# EAGLE library part 3X3BGA (library Chips)
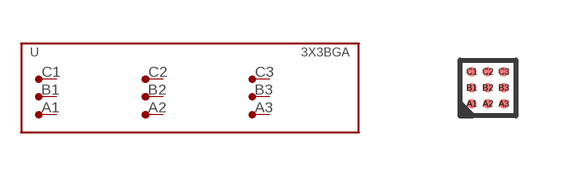
[diagram p28: symbol with the pads of 3X3X0.4BGA; footprint 3X3X0.4BGA]

Designator prefix U

## 3X3BGA0.4MM  [3X3X0.4BGA]
A1  A1
A2  A2
A3  A3
B1  B1
B2  B2
B3  B3
C1  C1
C2  C2
C3  C3

## Footprint 3X3X0.4BGA (pad centres in mm)
smd 0.24 x 0.24: A1 -0.4,-0.4; A2 0,-0.4; A3 0.4,-0.4; B1 -0.4,0; B2 0,0; B3 0.4,0; C1 -0.4,0.4; C2 0,0.4; C3 0.4,0.4